# Altium footprint library 2.54-PLCC插槽封装.PcbLib: 85 footprints (part 3 of 6)
Each footprint in its own frame and in the unit in brackets; x right, y up, seen from the top. Pads: shape width x height; smd on the part's side, far side on the other; paste and mask are expansions set on the pad; w line width, h text height; cw(c..) or ccw(c..) is an arc to the next point about the centre after c.
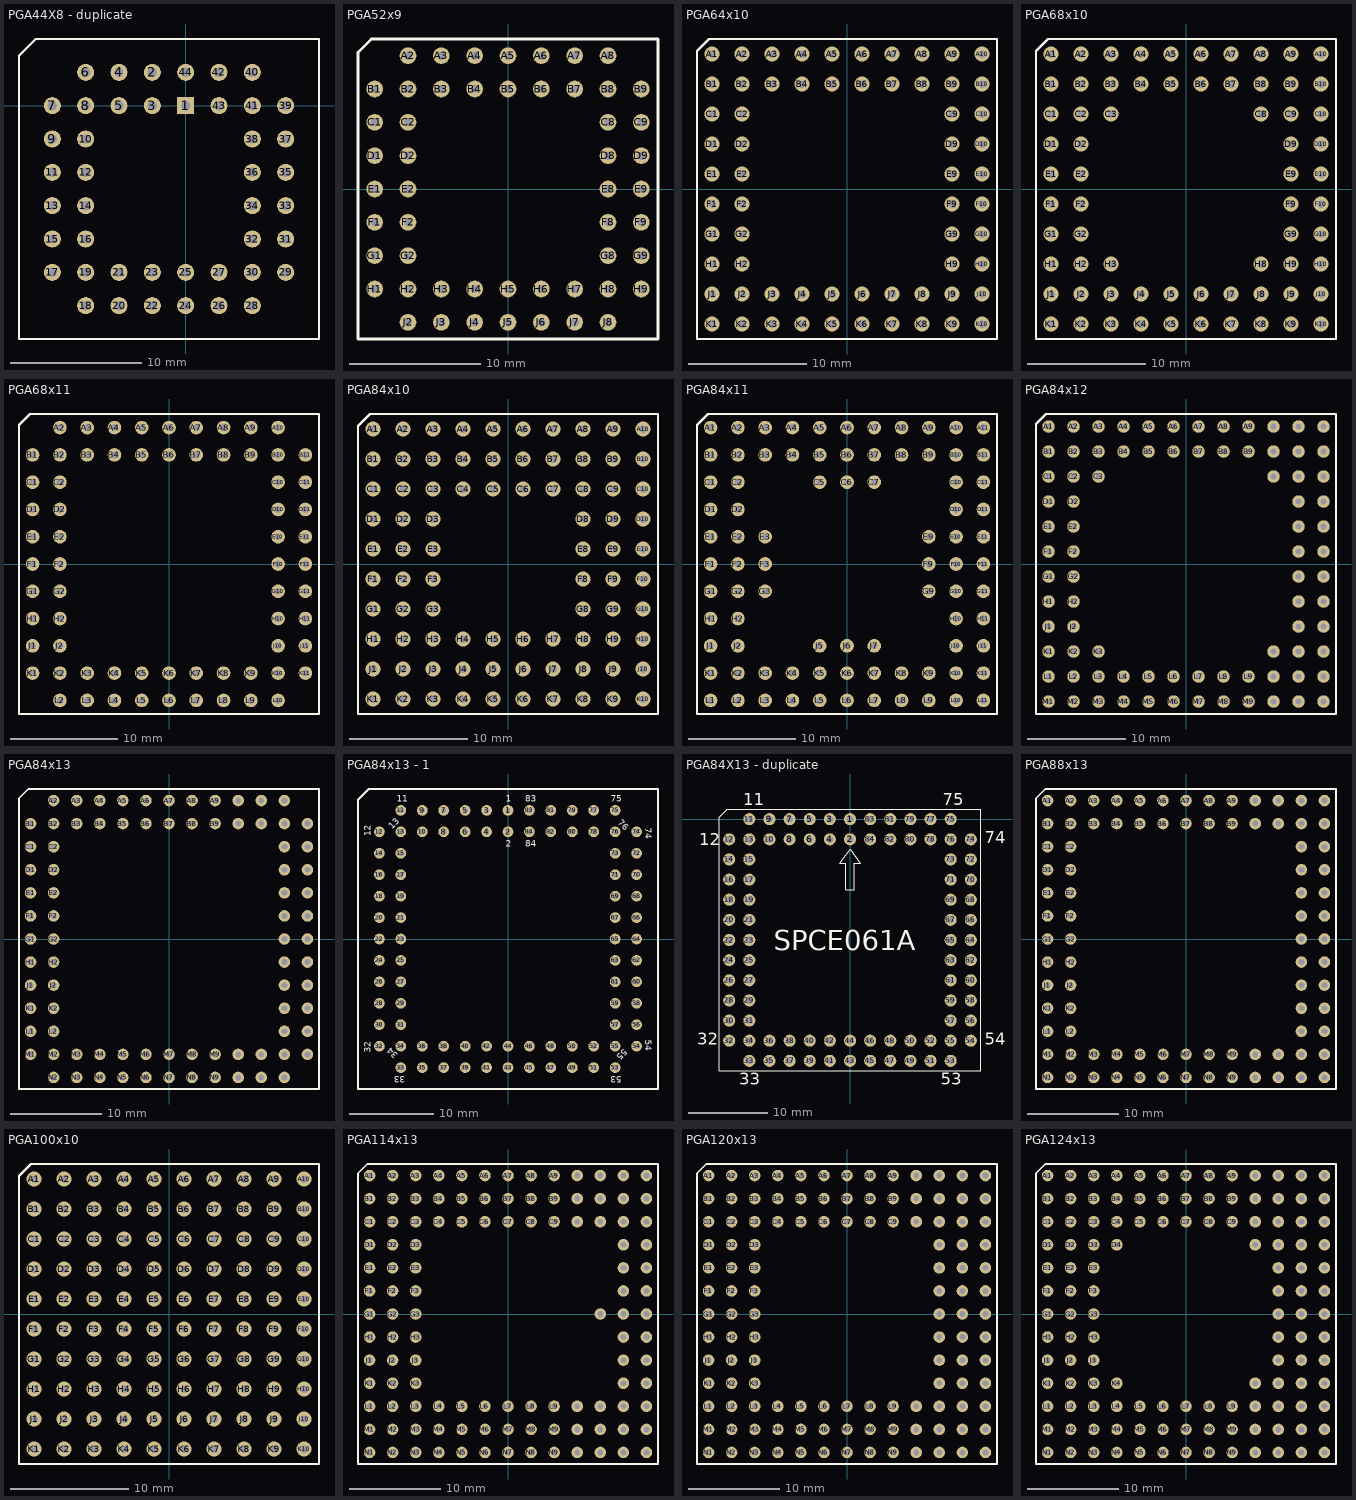
[diagram p2: the footprints below, top view; thin cyan lines are the x and y axes]

## PGA44X8 - duplicate [mm] "联系卖家 免费查找封装"
pads (44):
  rect 1.3x1.3 hole 0.7: 1(0,0)
  round 1.3 hole 0.7: 2(-2.54,2.54) 3(-2.54,0) 4(-5.08,2.54) 5(-5.08,0) 6(-7.62,2.54) 7(-10.16,0) 8(-7.62,0) 9(-10.16,-2.54) 10(-7.62,-2.54) 11(-10.16,-5.08) 12(-7.62,-5.08) 13(-10.16,-7.62) 14(-7.62,-7.62) 15(-10.16,-10.16) 16(-7.62,-10.16) 17(-10.16,-12.7) 18(-7.62,-15.24) 19(-7.62,-12.7) 20(-5.08,-15.24) 21(-5.08,-12.7) 22(-2.54,-15.24) 23(-2.54,-12.7) 24(0,-15.24) 25(0,-12.7) 26(2.54,-15.24) 27(2.54,-12.7) 28(5.08,-15.24) 29(7.62,-12.7) 30(5.08,-12.7) 31(7.62,-10.16) 32(5.08,-10.16) 33(7.62,-7.62) 34(5.08,-7.62) 35(7.62,-5.08) 36(5.08,-5.08) 37(7.62,-2.54) 38(5.08,-2.54) 39(7.62,0) 40(5.08,2.54) 41(5.08,0) 42(2.54,2.54) 43(2.54,0) 44(0,2.54)
Top Overlay:
  lines w0.15: -12.7,-17.78 -12.7,3.81 -11.43,5.08 10.16,5.08 10.16,-17.78 -12.7,-17.78
3D body "User Library-PLCC44-1.STEP": height 8.16, standoff -3.3, extent -12.495,-17.575 9.955,4.875

## PGA52x9 [mil]
pads (52):
  round 50 hole 25: A2(-300,400) A3(-200,400) A4(-100,400) A5(0,400) A6(100,400) A7(200,400) A8(300,400) B1(-400,300) B2(-300,300) B3(-200,300) B4(-100,300) B5(0,300) B6(100,300) B7(200,300) B8(300,300) B9(400,300) C1(-400,200) C2(-300,200) C8(300,200) C9(400,200) D1(-400,100) D2(-300,100) D8(300,100) D9(400,100) E1(-400,0) E2(-300,0) E8(300,0) E9(400,0) F1(-400,-100) F2(-300,-100) F8(300,-100) F9(400,-100) G1(-400,-200) G2(-300,-200) G8(300,-200) G9(400,-200) H1(-400,-300) H2(-300,-300) H3(-200,-300) H4(-100,-300) H5(0,-300) H6(100,-300) H7(200,-300) H8(300,-300) H9(400,-300) J2(-300,-400) J3(-200,-400) J4(-100,-400) J5(0,-400) J6(100,-400) J7(200,-400) J8(300,-400)
Top Overlay:
  lines w8: -450,-450 -450,410 -410,450 450,450 450,-450 -450,-450

## PGA64x10 [mil]
pads (64):
  round 50 hole 25: A1(-450,450) A2(-350,450) A3(-250,450) A4(-150,450) A5(-50,450) A6(50,450) A7(150,450) A8(250,450) A9(350,450) A10(450,450) B1(-450,350) B2(-350,350) B3(-250,350) B4(-150,350) B5(-50,350) B6(50,350) B7(150,350) B8(250,350) B9(350,350) B10(450,350) C1(-450,250) C2(-350,250) C9(350,250) C10(450,250) D1(-450,150) D2(-350,150) D9(350,150) D10(450,150) E1(-450,50) E2(-350,50) E9(350,50) E10(450,50) F1(-450,-50) F2(-350,-50) F9(350,-50) F10(450,-50) G1(-450,-150) G2(-350,-150) G9(350,-150) G10(450,-150) H1(-450,-250) H2(-350,-250) H9(350,-250) H10(450,-250) J1(-450,-350) J2(-350,-350) J3(-250,-350) J4(-150,-350) J5(-50,-350) J6(50,-350) J7(150,-350) J8(250,-350) J9(350,-350) J10(450,-350) K1(-450,-450) K2(-350,-450) K3(-250,-450) K4(-150,-450) K5(-50,-450) K6(50,-450) K7(150,-450) K8(250,-450) K9(350,-450) K10(450,-450)
Top Overlay:
  lines w8: -500,-500 -500,460 -460,500 500,500 500,-500 -500,-500

## PGA68x10 [mil]
pads (68):
  round 50 hole 25: A1(-450,450) A2(-350,450) A3(-250,450) A4(-150,450) A5(-50,450) A6(50,450) A7(150,450) A8(250,450) A9(350,450) A10(450,450) B1(-450,350) B2(-350,350) B3(-250,350) B4(-150,350) B5(-50,350) B6(50,350) B7(150,350) B8(250,350) B9(350,350) B10(450,350) C1(-450,250) C2(-350,250) C3(-250,250) C8(250,250) C9(350,250) C10(450,250) D1(-450,150) D2(-350,150) D9(350,150) D10(450,150) E1(-450,50) E2(-350,50) E9(350,50) E10(450,50) F1(-450,-50) F2(-350,-50) F9(350,-50) F10(450,-50) G1(-450,-150) G2(-350,-150) G9(350,-150) G10(450,-150) H1(-450,-250) H2(-350,-250) H3(-250,-250) H8(250,-250) H9(350,-250) H10(450,-250) J1(-450,-350) J2(-350,-350) J3(-250,-350) J4(-150,-350) J5(-50,-350) J6(50,-350) J7(150,-350) J8(250,-350) J9(350,-350) J10(450,-350) K1(-450,-450) K2(-350,-450) K3(-250,-450) K4(-150,-450) K5(-50,-450) K6(50,-450) K7(150,-450) K8(250,-450) K9(350,-450) K10(450,-450)
Top Overlay:
  lines w8: -500,-500 500,-500 500,500 -460,500 -500,460 -500,-500

## PGA68x11 [mil]
pads (68):
  round 50 hole 25: A2(-400,500) A3(-300,500) A4(-200,500) A5(-100,500) A6(0,500) A7(100,500) A8(200,500) A9(300,500) A10(400,500) B1(-500,400) B2(-400,400) B3(-300,400) B4(-200,400) B5(-100,400) B6(0,400) B7(100,400) B8(200,400) B9(300,400) B10(400,400) B11(500,400) C1(-500,300) C2(-400,300) C10(400,300) C11(500,300) D1(-500,200) D2(-400,200) D10(400,200) D11(500,200) E1(-500,100) E2(-400,100) E10(400,100) E11(500,100) F1(-500,0) F2(-400,0) F10(400,0) F11(500,0) G1(-500,-100) G2(-400,-100) G10(400,-100) G11(500,-100) H1(-500,-200) H2(-400,-200) H10(400,-200) H11(500,-200) J1(-500,-300) J2(-400,-300) J10(400,-300) J11(500,-300) K1(-500,-400) K2(-400,-400) K3(-300,-400) K4(-200,-400) K5(-100,-400) K6(0,-400) K7(100,-400) K8(200,-400) K9(300,-400) K10(400,-400) K11(500,-400) L2(-400,-500) L3(-300,-500) L4(-200,-500) L5(-100,-500) L6(0,-500) L7(100,-500) L8(200,-500) L9(300,-500) L10(400,-500)
Top Overlay:
  lines w8: -550,-550 550,-550 550,550 -510,550 -550,510 -550,-550

## PGA84x10 [mil]
pads (84):
  round 50 hole 25: A1(-450,450) A2(-350,450) A3(-250,450) A4(-150,450) A5(-50,450) A6(50,450) A7(150,450) A8(250,450) A9(350,450) A10(450,450) B1(-450,350) B2(-350,350) B3(-250,350) B4(-150,350) B5(-50,350) B6(50,350) B7(150,350) B8(250,350) B9(350,350) B10(450,350) C1(-450,250) C2(-350,250) C3(-250,250) C4(-150,250) C5(-50,250) C6(50,250) C7(150,250) C8(250,250) C9(350,250) C10(450,250) D1(-450,150) D2(-350,150) D3(-250,150) D8(250,150) D9(350,150) D10(450,150) E1(-450,50) E2(-350,50) E3(-250,50) E8(250,50) E9(350,50) E10(450,50) F1(-450,-50) F2(-350,-50) F3(-250,-50) F8(250,-50) F9(350,-50) F10(450,-50) G1(-450,-150) G2(-350,-150) G3(-250,-150) G8(250,-150) G9(350,-150) G10(450,-150) H1(-450,-250) H2(-350,-250) H3(-250,-250) H4(-150,-250) H5(-50,-250) H6(50,-250) H7(150,-250) H8(250,-250) H9(350,-250) H10(450,-250) J1(-450,-350) J2(-350,-350) J3(-250,-350) J4(-150,-350) J5(-50,-350) J6(50,-350) J7(150,-350) J8(250,-350) J9(350,-350) J10(450,-350) K1(-450,-450) K2(-350,-450) K3(-250,-450) K4(-150,-450) K5(-50,-450) K6(50,-450) K7(150,-450) K8(250,-450) K9(350,-450) K10(450,-450)
Top Overlay:
  lines w8: -500,-500 500,-500 500,500 -460,500 -500,460 -500,-500

## PGA84x11 [mil]
pads (84):
  round 50 hole 25: A1(-500,500) A2(-400,500) A3(-300,500) A4(-200,500) A5(-100,500) A6(0,500) A7(100,500) A8(200,500) A9(300,500) A10(400,500) A11(500,500) B1(-500,400) B2(-400,400) B3(-300,400) B4(-200,400) B5(-100,400) B6(0,400) B7(100,400) B8(200,400) B9(300,400) B10(400,400) B11(500,400) C1(-500,300) C2(-400,300) C5(-100,300) C6(0,300) C7(100,300) C10(400,300) C11(500,300) D1(-500,200) D2(-400,200) D10(400,200) D11(500,200) E1(-500,100) E2(-400,100) E3(-300,100) E9(300,100) E10(400,100) E11(500,100) F1(-500,0) F2(-400,0) F3(-300,0) F9(300,0) F10(400,0) F11(500,0) G1(-500,-100) G2(-400,-100) G3(-300,-100) G9(300,-100) G10(400,-100) G11(500,-100) H1(-500,-200) H2(-400,-200) H10(400,-200) H11(500,-200) J1(-500,-300) J2(-400,-300) J5(-100,-300) J6(0,-300) J7(100,-300) J10(400,-300) J11(500,-300) K1(-500,-400) K2(-400,-400) K3(-300,-400) K4(-200,-400) K5(-100,-400) K6(0,-400) K7(100,-400) K8(200,-400) K9(300,-400) K10(400,-400) K11(500,-400) L1(-500,-500) L2(-400,-500) L3(-300,-500) L4(-200,-500) L5(-100,-500) L6(0,-500) L7(100,-500) L8(200,-500) L9(300,-500) L10(400,-500) L11(500,-500)
Top Overlay:
  lines w8: -550,-550 550,-550 550,550 -510,550 -550,510 -550,-550

## PGA84x12 [mil]
pads (84):
  round 50 hole 25: A1(-550,550) A2(-450,550) A3(-350,550) A4(-250,550) A5(-150,550) A6(-50,550) A7(50,550) A8(150,550) A9(250,550) A10(350,550) A11(450,550) A12(550,550) B1(-550,450) B2(-450,450) B3(-350,450) B4(-250,450) B5(-150,450) B6(-50,450) B7(50,450) B8(150,450) B9(250,450) B10(350,450) B11(450,450) B12(550,450) C1(-550,350) C2(-450,350) C3(-350,350) C10(350,350) C11(450,350) C12(550,350) D1(-550,250) D2(-450,250) D11(450,250) D12(550,250) E1(-550,150) E2(-450,150) E11(450,150) E12(550,150) F1(-550,50) F2(-450,50) F11(450,50) F12(550,50) G1(-550,-50) G2(-450,-50) G11(450,-50) G12(550,-50) H1(-550,-150) H2(-450,-150) H11(450,-150) H12(550,-150) J1(-550,-250) J2(-450,-250) J11(450,-250) J12(550,-250) K1(-550,-350) K2(-450,-350) K3(-350,-350) K10(350,-350) K11(450,-350) K12(550,-350) L1(-550,-450) L2(-450,-450) L3(-350,-450) L4(-250,-450) L5(-150,-450) L6(-50,-450) L7(50,-450) L8(150,-450) L9(250,-450) L10(350,-450) L11(450,-450) L12(550,-450) M1(-550,-550) M2(-450,-550) M3(-350,-550) M4(-250,-550) M5(-150,-550) M6(-50,-550) M7(50,-550) M8(150,-550) M9(250,-550) M10(350,-550) M11(450,-550) M12(550,-550)
Top Overlay:
  lines w8: -600,-600 600,-600 600,600 -560,600 -600,560 -600,-600

## PGA84x13 [mil]
pads (84):
  round 50 hole 25: A2(-500,600) A3(-400,600) A4(-300,600) A5(-200,600) A6(-100,600) A7(0,600) A8(100,600) A9(200,600) A10(300,600) A11(400,600) A12(500,600) B1(-600,500) B2(-500,500) B3(-400,500) B4(-300,500) B5(-200,500) B6(-100,500) B7(0,500) B8(100,500) B9(200,500) B10(300,500) B11(400,500) B12(500,500) B13(600,500) C1(-600,400) C2(-500,400) C12(500,400) C13(600,400) D1(-600,300) D2(-500,300) D12(500,300) D13(600,300) E1(-600,200) E2(-500,200) E12(500,200) E13(600,200) F1(-600,100) F2(-500,100) F12(500,100) F13(600,100) G1(-600,0) G2(-500,0) G12(500,0) G13(600,0) H1(-600,-100) H2(-500,-100) H12(500,-100) H13(600,-100) J1(-600,-200) J2(-500,-200) J12(500,-200) J13(600,-200) K1(-600,-300) K2(-500,-300) K12(500,-300) K13(600,-300) L1(-600,-400) L2(-500,-400) L12(500,-400) L13(600,-400) M1(-600,-500) M2(-500,-500) M3(-400,-500) M4(-300,-500) M5(-200,-500) M6(-100,-500) M7(0,-500) M8(100,-500) M9(200,-500) M10(300,-500) M11(400,-500) M12(500,-500) M13(600,-500) N2(-500,-600) N3(-400,-600) N4(-300,-600) N5(-200,-600) N6(-100,-600) N7(0,-600) N8(100,-600) N9(200,-600) N10(300,-600) N11(400,-600) N12(500,-600)
Top Overlay:
  lines w8: -650,-650 -650,610 -610,650 650,650 650,-650 -650,-650

## PGA84x13 - 1 [mil] "PLCC84脚插座，共13排"
pads (84):
  round 50 hole 25: 1(0,600) 2(0,500) 3(-100,600) 4(-100,500) 5(-200,600) 6(-200,500) 7(-300,600) 8(-300,500) 9(-400,600) 10(-400,500) 11(-500,600) 12(-600,500) 13(-500,500) 14(-600,400) 15(-500,400) 16(-600,300) 17(-500,300) 18(-600,200) 19(-500,200) 20(-600,100) 21(-500,100) 22(-600,0) 23(-500,0) 24(-600,-100) 25(-500,-100) 26(-600,-200) 27(-500,-200) 28(-600,-300) 29(-500,-300) 30(-600,-400) 31(-500,-400) 32(-600,-500) 33(-500,-600) 34(-500,-500) 35(-400,-600) 36(-400,-500) 37(-300,-600) 38(-300,-500) 39(-200,-600) 40(-200,-500) 41(-100,-600) 42(-100,-500) 43(0,-600) 44(0,-500) 45(100,-600) 46(100,-500) 47(200,-600) 48(200,-500) 49(300,-600) 50(300,-500) 51(400,-600) 52(400,-500) 53(500,-600) 54(600,-500) 55(500,-500) 56(600,-400) 57(500,-400) 58(600,-300) 59(500,-300) 60(600,-200) 61(500,-200) 62(600,-100) 63(500,-100) 64(600,0) 65(500,0) 66(600,100) 67(500,100) 68(600,200) 69(500,200) 70(600,300) 71(500,300) 72(600,400) 73(500,400) 74(600,500) 75(500,600) 76(500,500) 77(400,600) 78(400,500) 79(300,600) 80(300,500) 81(200,600) 82(200,500) 83(100,600) 84(100,500)
Top Overlay:
  lines w10: -700,-700 -700,650 -650,700 700,700 700,-700 -700,-700
  text "76" at 510,540 h30
  text "74" at 640,520 h30
  text "55" at 540,-510 h30
  text "34" at -510,-540 h30
  text "33" at -480,-640 h30
  text "32" at -640,-530 h30
  text "83" at 80,640 h30
  text "84" at 80,430 h30
  text "1" at -10,640 h30
  text "2" at -10,430 h30
  text "11" at -520,640 h30
  text "12" at -640,480 h30
  text "13" at -540,510 h30
  text "53" at 530,-640 h30
  text "54" at 640,-470 h30
  text "75" at 480,640 h30

## PGA84X13 - duplicate [mil]
pads (84):
  round 60 hole 34: 1(0,0) 2(0,-100) 3(-100,0) 4(-100,-100) 5(-200,0) 6(-200,-100) 7(-300,0) 8(-300,-100) 9(-400,0) 10(-400,-100) 11(-500,0) 12(-600,-100) 13(-500,-100) 14(-600,-200) 15(-500,-200) 16(-600,-300) 17(-500,-300) 18(-600,-400) 19(-500,-400) 20(-600,-500) 21(-500,-500) 22(-600,-600) 23(-500,-600) 24(-600,-700) 25(-500,-700) 26(-600,-800) 27(-500,-800) 28(-600,-900) 29(-500,-900) 30(-600,-1000) 31(-500,-1000) 32(-600,-1100) 33(-500,-1200) 34(-500,-1100) 35(-400,-1200) 36(-400,-1100) 37(-300,-1200) 38(-300,-1100) 39(-200,-1200) 40(-200,-1100) 41(-100,-1200) 42(-100,-1100) 43(0,-1200) 44(0,-1100) 45(100,-1200) 46(100,-1100) 47(200,-1200) 48(200,-1100) 49(300,-1200) 50(300,-1100) 51(400,-1200) 52(400,-1100) 53(500,-1200) 54(600,-1100) 55(500,-1100) 56(600,-1000) 57(500,-1000) 58(600,-900) 59(500,-900) 60(600,-800) 61(500,-800) 62(600,-700) 63(500,-700) 64(600,-600) 65(500,-600) 66(600,-500) 67(500,-500) 68(600,-400) 69(500,-400) 70(600,-300) 71(500,-300) 72(600,-200) 73(500,-200) 74(600,-100) 75(500,0) 76(500,-100) 77(400,0) 78(400,-100) 79(300,0) 80(300,-100) 81(200,0) 82(200,-100) 83(100,0) 84(100,-100)
Top Overlay:
  lines w5.91: -650,-1250 650,-1250 650,50 -610,50 -650,10 -650,-1250 ; -50,-220 0,-150 50,-220 20,-220 20,-350 -20,-350 -20,-220 -50,-220
  text "SPCE061A" at -380,-650 h100
  text "53" at 450,-1320 h60
  text "33" at -550,-1320 h60
  text "75" at 460,70 h60
  text "11" at -530,70 h60
  text "32" at -760,-1120 h60
  text "12" at -750,-130 h60
  text "54" at 670,-1120 h60
  text "74" at 670,-120 h60
3D body "User Library-PLCC84 and SocketPLCC84.STEP": height 317.32, standoff -188.19, extent -691.93,-1291.93 691.93,91.93

## PGA88x13 [mil]
pads (88):
  round 50 hole 25: A1(-600,600) A2(-500,600) A3(-400,600) A4(-300,600) A5(-200,600) A6(-100,600) A7(0,600) A8(100,600) A9(200,600) A10(300,600) A11(400,600) A12(500,600) A13(600,600) B1(-600,500) B2(-500,500) B3(-400,500) B4(-300,500) B5(-200,500) B6(-100,500) B7(0,500) B8(100,500) B9(200,500) B10(300,500) B11(400,500) B12(500,500) B13(600,500) C1(-600,400) C2(-500,400) C12(500,400) C13(600,400) D1(-600,300) D2(-500,300) D12(500,300) D13(600,300) E1(-600,200) E2(-500,200) E12(500,200) E13(600,200) F1(-600,100) F2(-500,100) F12(500,100) F13(600,100) G1(-600,0) G2(-500,0) G12(500,0) G13(600,0) H1(-600,-100) H2(-500,-100) H12(500,-100) H13(600,-100) J1(-600,-200) J2(-500,-200) J12(500,-200) J13(600,-200) K1(-600,-300) K2(-500,-300) K12(500,-300) K13(600,-300) L1(-600,-400) L2(-500,-400) L12(500,-400) L13(600,-400) M1(-600,-500) M2(-500,-500) M3(-400,-500) M4(-300,-500) M5(-200,-500) M6(-100,-500) M7(0,-500) M8(100,-500) M9(200,-500) M10(300,-500) M11(400,-500) M12(500,-500) M13(600,-500) N1(-600,-600) N2(-500,-600) N3(-400,-600) N4(-300,-600) N5(-200,-600) N6(-100,-600) N7(0,-600) N8(100,-600) N9(200,-600) N10(300,-600) N11(400,-600) N12(500,-600) N13(600,-600)
Top Overlay:
  lines w8: -650,-650 650,-650 650,650 -610,650 -650,610 -650,-650

## PGA100x10 [mil]
pads (100):
  round 50 hole 25: A1(-450,450) A2(-350,450) A3(-250,450) A4(-150,450) A5(-50,450) A6(50,450) A7(150,450) A8(250,450) A9(350,450) A10(450,450) B1(-450,350) B2(-350,350) B3(-250,350) B4(-150,350) B5(-50,350) B6(50,350) B7(150,350) B8(250,350) B9(350,350) B10(450,350) C1(-450,250) C2(-350,250) C3(-250,250) C4(-150,250) C5(-50,250) C6(50,250) C7(150,250) C8(250,250) C9(350,250) C10(450,250) D1(-450,150) D2(-350,150) D3(-250,150) D4(-150,150) D5(-50,150) D6(50,150) D7(150,150) D8(250,150) D9(350,150) D10(450,150) E1(-450,50) E2(-350,50) E3(-250,50) E4(-150,50) E5(-50,50) E6(50,50) E7(150,50) E8(250,50) E9(350,50) E10(450,50) F1(-450,-50) F2(-350,-50) F3(-250,-50) F4(-150,-50) F5(-50,-50) F6(50,-50) F7(150,-50) F8(250,-50) F9(350,-50) F10(450,-50) G1(-450,-150) G2(-350,-150) G3(-250,-150) G4(-150,-150) G5(-50,-150) G6(50,-150) G7(150,-150) G8(250,-150) G9(350,-150) G10(450,-150) H1(-450,-250) H2(-350,-250) H3(-250,-250) H4(-150,-250) H5(-50,-250) H6(50,-250) H7(150,-250) H8(250,-250) H9(350,-250) H10(450,-250) J1(-450,-350) J2(-350,-350) J3(-250,-350) J4(-150,-350) J5(-50,-350) J6(50,-350) J7(150,-350) J8(250,-350) J9(350,-350) J10(450,-350) K1(-450,-450) K2(-350,-450) K3(-250,-450) K4(-150,-450) K5(-50,-450) K6(50,-450) K7(150,-450) K8(250,-450) K9(350,-450) K10(450,-450)
Top Overlay:
  lines w8: -500,-500 500,-500 500,500 -460,500 -500,460 -500,-500

## PGA114x13 [mil]
pads (114):
  round 50 hole 25: A1(-600,600) A2(-500,600) A3(-400,600) A4(-300,600) A5(-200,600) A6(-100,600) A7(0,600) A8(100,600) A9(200,600) A10(300,600) A11(400,600) A12(500,600) A13(600,600) B1(-600,500) B2(-500,500) B3(-400,500) B4(-300,500) B5(-200,500) B6(-100,500) B7(0,500) B8(100,500) B9(200,500) B10(300,500) B11(400,500) B12(500,500) B13(600,500) C1(-600,400) C2(-500,400) C3(-400,400) C4(-300,400) C5(-200,400) C6(-100,400) C7(0,400) C8(100,400) C9(200,400) C10(300,400) C11(400,400) C12(500,400) C13(600,400) D1(-600,300) D2(-500,300) D3(-400,300) D12(500,300) D13(600,300) E1(-600,200) E2(-500,200) E3(-400,200) E12(500,200) E13(600,200) F1(-600,100) F2(-500,100) F3(-400,100) F12(500,100) F13(600,100) G1(-600,0) G2(-500,0) G3(-400,0) G11(400,0) G12(500,0) G13(600,0) H1(-600,-100) H2(-500,-100) H3(-400,-100) H12(500,-100) H13(600,-100) J1(-600,-200) J2(-500,-200) J3(-400,-200) J12(500,-200) J13(600,-200) K1(-600,-300) K2(-500,-300) K3(-400,-300) K12(500,-300) K13(600,-300) L1(-600,-400) L2(-500,-400) L3(-400,-400) L4(-300,-400) L5(-200,-400) L6(-100,-400) L7(0,-400) L8(100,-400) L9(200,-400) L10(300,-400) L11(400,-400) L12(500,-400) L13(600,-400) M1(-600,-500) M2(-500,-500) M3(-400,-500) M4(-300,-500) M5(-200,-500) M6(-100,-500) M7(0,-500) M8(100,-500) M9(200,-500) M10(300,-500) M11(400,-500) M12(500,-500) M13(600,-500) N1(-600,-600) N2(-500,-600) N3(-400,-600) N4(-300,-600) N5(-200,-600) N6(-100,-600) N7(0,-600) N8(100,-600) N9(200,-600) N10(300,-600) N11(400,-600) N12(500,-600) N13(600,-600)
Top Overlay:
  lines w8: -650,-650 650,-650 650,650 -610,650 -650,610 -650,-650

## PGA120x13 [mil]
pads (120):
  round 50 hole 25: A1(-600,600) A2(-500,600) A3(-400,600) A4(-300,600) A5(-200,600) A6(-100,600) A7(0,600) A8(100,600) A9(200,600) A10(300,600) A11(400,600) A12(500,600) A13(600,600) B1(-600,500) B2(-500,500) B3(-400,500) B4(-300,500) B5(-200,500) B6(-100,500) B7(0,500) B8(100,500) B9(200,500) B10(300,500) B11(400,500) B12(500,500) B13(600,500) C1(-600,400) C2(-500,400) C3(-400,400) C4(-300,400) C5(-200,400) C6(-100,400) C7(0,400) C8(100,400) C9(200,400) C10(300,400) C11(400,400) C12(500,400) C13(600,400) D1(-600,300) D2(-500,300) D3(-400,300) D11(400,300) D12(500,300) D13(600,300) E1(-600,200) E2(-500,200) E3(-400,200) E11(400,200) E12(500,200) E13(600,200) F1(-600,100) F2(-500,100) F3(-400,100) F11(400,100) F12(500,100) F13(600,100) G1(-600,0) G2(-500,0) G3(-400,0) G11(400,0) G12(500,0) G13(600,0) H1(-600,-100) H2(-500,-100) H3(-400,-100) H11(400,-100) H12(500,-100) H13(600,-100) J1(-600,-200) J2(-500,-200) J3(-400,-200) J11(400,-200) J12(500,-200) J13(600,-200) K1(-600,-300) K2(-500,-300) K3(-400,-300) K11(400,-300) K12(500,-300) K13(600,-300) L1(-600,-400) L2(-500,-400) L3(-400,-400) L4(-300,-400) L5(-200,-400) L6(-100,-400) L7(0,-400) L8(100,-400) L9(200,-400) L10(300,-400) L11(400,-400) L12(500,-400) L13(600,-400) M1(-600,-500) M2(-500,-500) M3(-400,-500) M4(-300,-500) M5(-200,-500) M6(-100,-500) M7(0,-500) M8(100,-500) M9(200,-500) M10(300,-500) M11(400,-500) M12(500,-500) M13(600,-500) N1(-600,-600) N2(-500,-600) N3(-400,-600) N4(-300,-600) N5(-200,-600) N6(-100,-600) N7(0,-600) N8(100,-600) N9(200,-600) N10(300,-600) N11(400,-600) N12(500,-600) N13(600,-600)
Top Overlay:
  lines w8: -650,-650 650,-650 650,650 -610,650 -650,610 -650,-650

## PGA124x13 [mil]
pads (124):
  round 50 hole 25: A1(-600,600) A2(-500,600) A3(-400,600) A4(-300,600) A5(-200,600) A6(-100,600) A7(0,600) A8(100,600) A9(200,600) A10(300,600) A11(400,600) A12(500,600) A13(600,600) B1(-600,500) B2(-500,500) B3(-400,500) B4(-300,500) B5(-200,500) B6(-100,500) B7(0,500) B8(100,500) B9(200,500) B10(300,500) B11(400,500) B12(500,500) B13(600,500) C1(-600,400) C2(-500,400) C3(-400,400) C4(-300,400) C5(-200,400) C6(-100,400) C7(0,400) C8(100,400) C9(200,400) C10(300,400) C11(400,400) C12(500,400) C13(600,400) D1(-600,300) D2(-500,300) D3(-400,300) D4(-300,300) D10(300,300) D11(400,300) D12(500,300) D13(600,300) E1(-600,200) E2(-500,200) E3(-400,200) E11(400,200) E12(500,200) E13(600,200) F1(-600,100) F2(-500,100) F3(-400,100) F11(400,100) F12(500,100) F13(600,100) G1(-600,0) G2(-500,0) G3(-400,0) G11(400,0) G12(500,0) G13(600,0) H1(-600,-100) H2(-500,-100) H3(-400,-100) H11(400,-100) H12(500,-100) H13(600,-100) J1(-600,-200) J2(-500,-200) J3(-400,-200) J11(400,-200) J12(500,-200) J13(600,-200) K1(-600,-300) K2(-500,-300) K3(-400,-300) K4(-300,-300) K10(300,-300) K11(400,-300) K12(500,-300) K13(600,-300) L1(-600,-400) L2(-500,-400) L3(-400,-400) L4(-300,-400) L5(-200,-400) L6(-100,-400) L7(0,-400) L8(100,-400) L9(200,-400) L10(300,-400) L11(400,-400) L12(500,-400) L13(600,-400) M1(-600,-500) M2(-500,-500) M3(-400,-500) M4(-300,-500) M5(-200,-500) M6(-100,-500) M7(0,-500) M8(100,-500) M9(200,-500) M10(300,-500) M11(400,-500) M12(500,-500) M13(600,-500) N1(-600,-600) N2(-500,-600) N3(-400,-600) N4(-300,-600) N5(-200,-600) N6(-100,-600) N7(0,-600) N8(100,-600) N9(200,-600) N10(300,-600) N11(400,-600) N12(500,-600) N13(600,-600)
Top Overlay:
  lines w8: -650,-650 -650,610 -610,650 650,650 650,-650 -650,-650